# Altium footprint library passive.PcbLib: 20 footprints (part 2 of 2)
Each footprint in its own frame and in the unit in brackets; x right, y up, seen from the top. Pads: shape width x height; smd on the part's side, far side on the other; paste and mask are expansions set on the pad; w line width, h text height; cw(c..) or ccw(c..) is an arc to the next point about the centre after c.
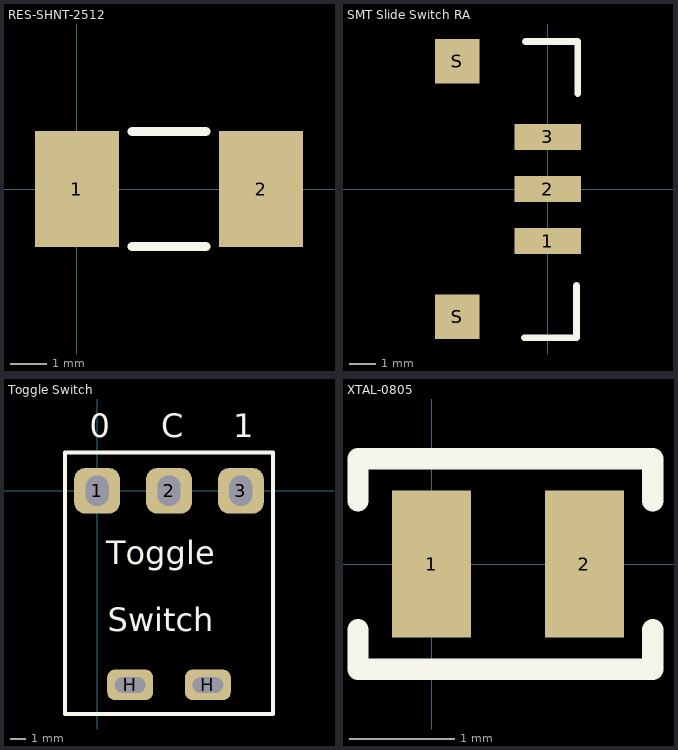
[diagram p1: the footprints below, top view; thin cyan lines are the x and y axes]

## RES-SHNT-2512 [mil]
pads (2):
  rect 91x126 smd: 1(0,0) 2(200,0)
Top Overlay:
  lines w10: 60,-62.5 140,-62.5 ; 60,62.5 140,62.5
3D body "WSLF2512 (0.0003 ohm).stp": height 52.5, standoff 0, extent -22.5,-62.5 227.5,62.5

## SMT Slide Switch RA [mm] "2mm Pitch"
pads (5):
  rect 2.55x1 smd: 1(0,-2) 2(0,0) 3(0,2)
  rect 1.7x1.7 smd: S(-3.475,-4.9) S(-3.475,4.9)
Top Overlay:
  lines w0.254: -0.9,-5.7 1.1,-5.7 1.1,-3.7 ; -0.854,5.654 1.146,5.654 1.146,3.654
3D body "SS312SAH4.stp": height 3.05, standoff 0, extent -6.7,-5.245 0.691,5.245

## Toggle Switch [mm] "On-On SPDT"
height 6.86
pads (5):
  rrect50% 3x3 hole 2 slot 1.5 at 0 deg: 1(0,0) 2(4.7,0) 3(9.4,0)
  rrect50% 3x2 hole 1 slot 2 at 0 deg: H(2.16,-12.7) H(7.24,-12.7)
Top Overlay:
  lines w0.254: -2.1,-14.6 -2.1,2.5 11.5,2.5 11.5,-14.6 -2.1,-14.6
  text "Switch" at 0.7,-9.2 h1.52
  text "Toggle" at 0.6,-4.8 h1.52
  text "1" at 8.9,3.5 h1.52
  text "0" at -0.5,3.5 h1.52
  text "C" at 4.2,3.5 h1.52
3D body "M2012S2A2A30.stp": height 8.5, standoff -3.74, extent -1.802,-25.672 11.202,0.672

## XTAL-0805 [mm] "Crystal Oscillator"
height 0.6
pads (2):
  rect 0.75x1.4 smd: 1(0,0) 2(1.45,0)
Top Overlay:
  lines w0.2: -0.7,-0.625 -0.7,-1 2.1,-1 2.1,-0.625 ; -0.7,0.6 -0.7,1 2.1,1 2.1,0.6
3D body "R0805.STEP": height 0.46, standoff -0.01, extent -0.25,-0.625 1.75,0.625